# EAGLE library part 5559IN13UA3 (library 5559)
5559ИН13УА3
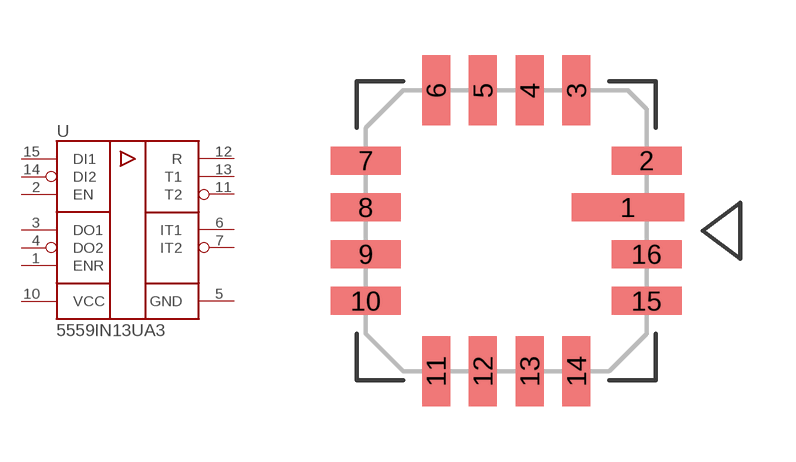
[diagram p2: symbol with the pads of 5119.16-A; footprint 5119.16-A]

Designator prefix U

## 5559IN13UA3  [5119.16-A]
1  ENR
2  EN
3  DO1
4  DO2
5  GND
6  IT1
7  IT2
10  VCC
11  T2
12  R
13  T1
14  DI2
15  DI1

## Footprint 5119.16-A (pad centres in mm)
smd 3.048 x 0.762: 1 3.302,0.635
smd 1.905 x 0.762: 2 3.81,1.905; 7 -3.81,1.905; 8 -3.81,0.635; 9 -3.81,-0.635; 10 -3.81,-1.905; 15 3.81,-1.905; 16 3.81,-0.635
smd 0.762 x 1.905: 3 1.905,3.81; 4 0.635,3.81; 5 -0.635,3.81; 6 -1.905,3.81; 11 -1.905,-3.81; 12 -0.635,-3.81; 13 0.635,-3.81; 14 1.905,-3.81